# EAGLE library part 691322310007 (library Wurth_Elektronik_Electromechanic_Terminal_Blocks_Connectors_rev15c)
WR-TBL Serie 322 - 3.81mm Vertical PCB Header , 7 Pins=>Code : Con_TBL_Pluggable_3.81_PCB_THT_Simple_691322310007 <http://katalog.we-online.de/media/images/eican/Con_TBL_Pluggable_3.81_PCB_THT_Simple_6913223100xx_pf2.jpg> Details see: http://katalog.we-online.de/en/em/691_322_310_0xx Created 2014-06-19, Karrer Zheng 2014 (C) Würth Elektronik
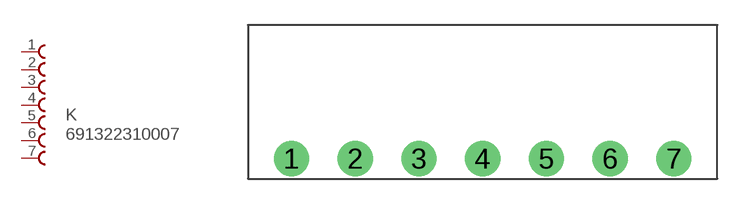
[diagram p39: symbol with the pads of 691322310007; footprint 691322310007]

Designator prefix K

## 691322310007  [691322310007]
1  1  pas
2  2  pas
3  3  pas
4  4  pas
5  5  pas
6  6  pas
7  7  pas

## Footprint 691322310007 (pad centres in mm)
WR-TBL Serie 322 - 3.81mm Vertical PCB Header , 7 Pins
drill 1.4: 1 -3.81,0; 2 0,0; 3 3.81,0; 4 7.62,0; 5 11.43,0; 6 15.24,0; 7 19.05,0